# Altium footprint library maxim.PCBLIB: 63 footprints (part 1 of 4)
Each footprint in its own frame and in the unit in brackets; x right, y up, seen from the top. Pads: shape width x height; smd on the part's side, far side on the other; paste and mask are expansions set on the pad; w line width, h text height; cw(c..) or ccw(c..) is an arc to the next point about the centre after c.
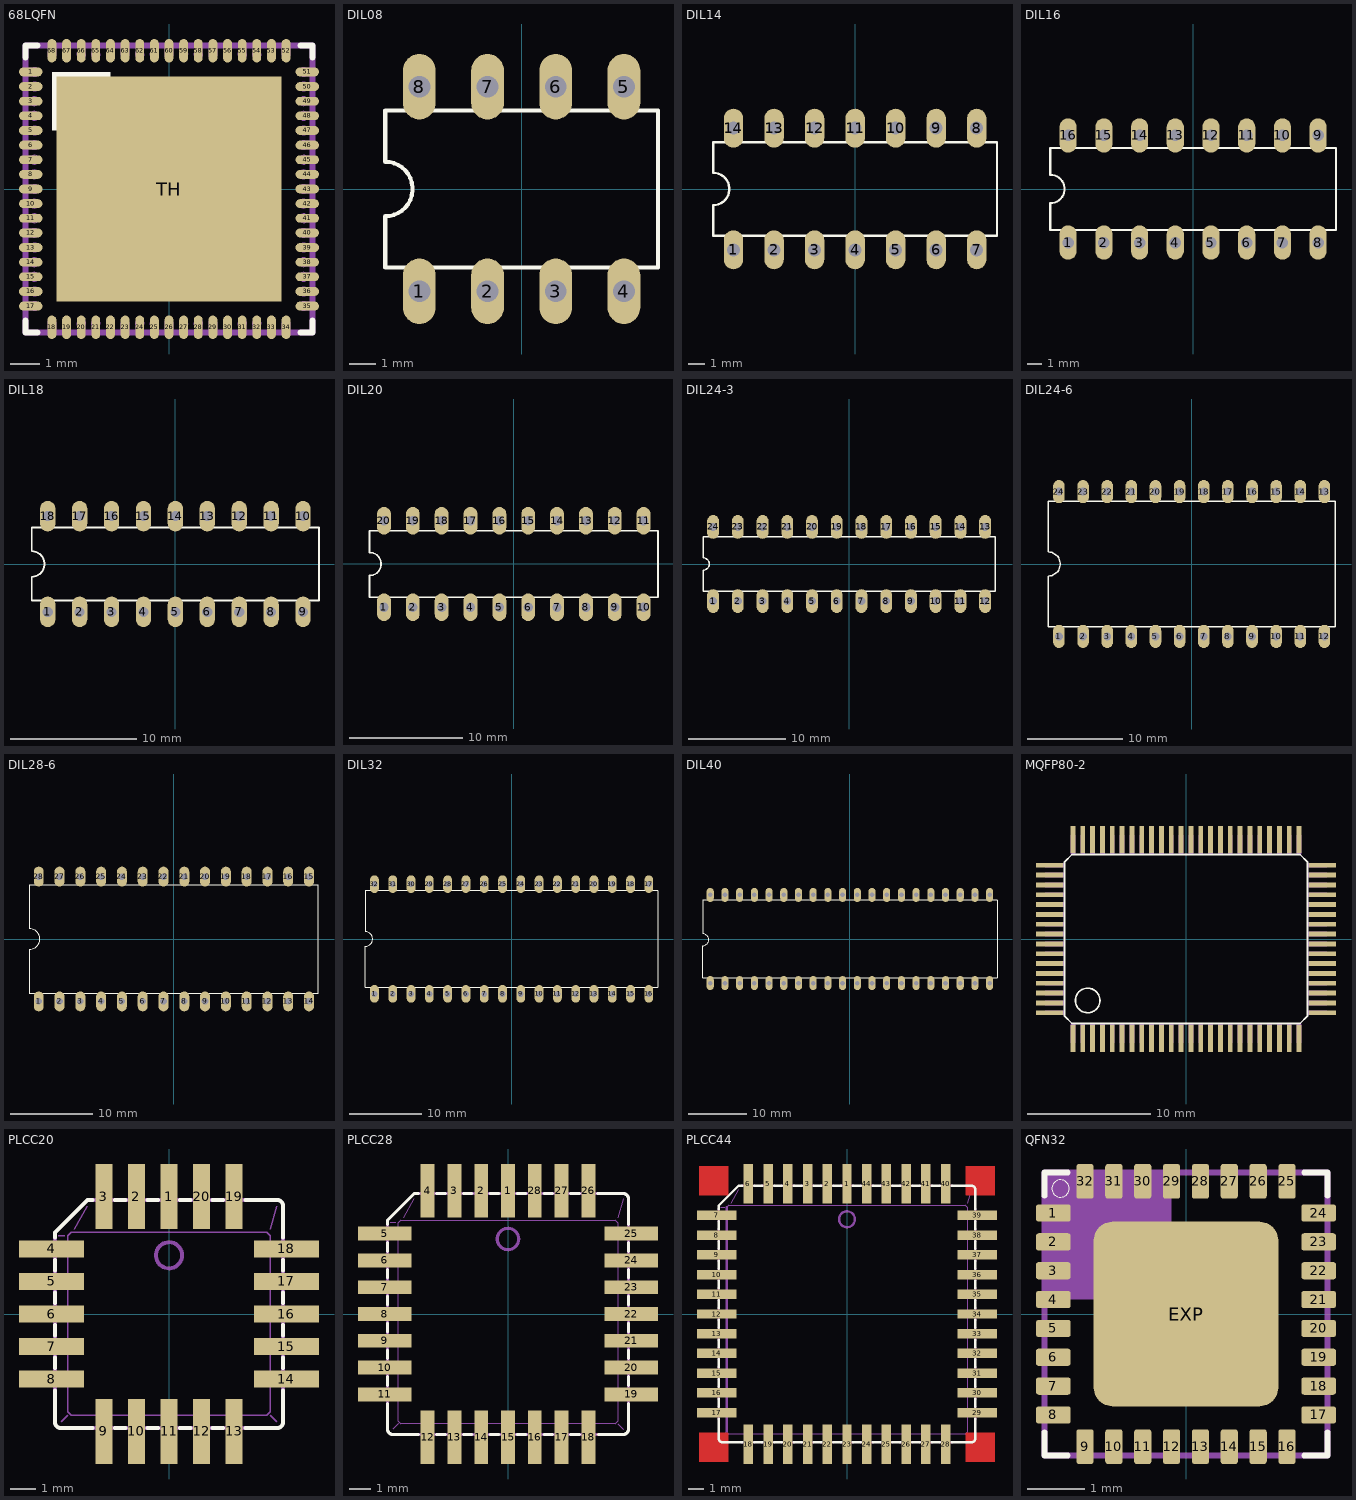
[diagram p0: the footprints below, top view; thin cyan lines are the x and y axes]

## 68LQFN [mil]
pads (69):
  rrect100% 31.5x11.81 smd: 1(-186.02,157.48) 2(-186.02,137.8) 3(-186.02,118.11) 4(-186.02,98.43) 5(-186.02,78.74) 6(-186.02,59.06) 7(-186.02,39.37) 8(-186.02,19.69) 9(-186.02,0) 10(-186.02,-19.69) 11(-186.02,-39.37) 12(-186.02,-59.06) 13(-186.02,-78.74) 14(-186.02,-98.43) 15(-186.02,-118.11) 16(-186.02,-137.8) 17(-186.02,-157.48) 35(186.02,-157.48) 36(186.02,-137.8) 37(186.02,-118.11) 38(186.02,-98.43) 39(186.02,-78.74) 40(186.02,-59.06) 41(186.02,-39.37) 42(186.02,-19.69) 43(186.02,0) 44(186.02,19.69) 45(186.02,39.37) 46(186.02,59.06) 47(186.02,78.74) 48(186.02,98.43) 49(186.02,118.11) 50(186.02,137.8) 51(186.02,157.48)
  rrect100% 11.81x31.5 smd: 18(-157.48,-186.02) 19(-137.8,-186.02) 20(-118.11,-186.02) 21(-98.43,-186.02) 22(-78.74,-186.02) 23(-59.06,-186.02) 24(-39.37,-186.02) 25(-19.69,-186.02) 26(0,-186.02) 27(19.69,-186.02) 28(39.37,-186.02) 29(59.06,-186.02) 30(78.74,-186.02) 31(98.43,-186.02) 32(118.11,-186.02) 33(137.8,-186.02) 34(157.48,-186.02) 52(157.48,186.02) 53(137.8,186.02) 54(118.11,186.02) 55(98.43,186.02) 56(78.74,186.02) 57(59.06,186.02) 58(39.37,186.02) 59(19.69,186.02) 60(0,186.02) 61(-19.69,186.02) 62(-39.37,186.02) 63(-59.06,186.02) 64(-78.74,186.02) 65(-98.43,186.02) 66(-118.11,186.02) 67(-137.8,186.02) 68(-157.48,186.02)
  rect 303.15x303.15 smd: TH(0,0)
Top Overlay:
  rectangle: -157.48,78.74 -78.74,157.48
  lines w8: -192.91,-177.17 -192.91,-192.91 -177.17,-192.91 ; -192.91,177.17 -192.91,192.91 -177.17,192.91 ; 177.17,-192.91 192.91,-192.91 192.91,-177.17 ; 177.17,192.91 192.91,192.91 192.91,177.17
Mechanical 16:
  circle w0: c-181.1,157.48 r5.91
  circle w0: c-181.1,137.8 r5.91
  circle w0: c-181.1,118.11 r5.91
  circle w0: c-181.1,98.43 r5.91
  circle w0: c-181.1,78.74 r5.91
  circle w0: c-181.1,59.06 r5.91
  circle w0: c-181.1,39.37 r5.91
  circle w0: c-181.1,19.69 r5.91
  circle w0: c-181.1,0 r5.91
  circle w0: c-181.1,-19.69 r5.91
  circle w0: c-181.1,-39.37 r5.91
  circle w0: c-181.1,-59.06 r5.91
  circle w0: c-181.1,-78.74 r5.91
  circle w0: c-181.1,-98.43 r5.91
  circle w0: c-181.1,-118.11 r5.91
  circle w0: c-181.1,-137.8 r5.91
  circle w0: c-181.1,-157.48 r5.91
  circle w0: c-157.48,-181.1 r5.91
  circle w0: c-137.8,-181.1 r5.91
  circle w0: c-118.11,-181.1 r5.91
  circle w0: c-98.43,-181.1 r5.91
  circle w0: c-78.74,-181.1 r5.91
  circle w0: c-59.06,-181.1 r5.91
  circle w0: c-39.37,-181.1 r5.91
  circle w0: c-19.69,-181.1 r5.91
  circle w0: c0,-181.1 r5.91
  circle w0: c19.69,-181.1 r5.91
  circle w0: c39.37,-181.1 r5.91
  circle w0: c59.06,-181.1 r5.91
  circle w0: c78.74,-181.1 r5.91
  circle w0: c98.43,-181.1 r5.91
  circle w0: c118.11,-181.1 r5.91
  circle w0: c137.8,-181.1 r5.91
  circle w0: c157.48,-181.1 r5.91
  circle w0: c181.1,-157.48 r5.91
  circle w0: c181.1,-137.8 r5.91
  circle w0: c181.1,-118.11 r5.91
  circle w0: c181.1,-98.43 r5.91
  circle w0: c181.1,-78.74 r5.91
  circle w0: c181.1,-59.06 r5.91
  circle w0: c181.1,-39.37 r5.91
  circle w0: c181.1,-19.69 r5.91
  circle w0: c181.1,0 r5.91
  circle w0: c181.1,19.69 r5.91
  circle w0: c181.1,39.37 r5.91
  circle w0: c181.1,59.06 r5.91
  circle w0: c181.1,78.74 r5.91
  circle w0: c181.1,98.43 r5.91
  circle w0: c181.1,118.11 r5.91
  circle w0: c181.1,137.8 r5.91
  circle w0: c181.1,157.48 r5.91
  circle w0: c157.48,181.1 r5.91
  circle w0: c137.8,181.1 r5.91
  circle w0: c118.11,181.1 r5.91
  circle w0: c98.43,181.1 r5.91
  circle w0: c78.74,181.1 r5.91
  circle w0: c59.06,181.1 r5.91
  circle w0: c39.37,181.1 r5.91
  circle w0: c19.69,181.1 r5.91
  circle w0: c0,181.1 r5.91
  circle w0: c-19.69,181.1 r5.91
  circle w0: c-39.37,181.1 r5.91
  circle w0: c-59.06,181.1 r5.91
  circle w0: c-78.74,181.1 r5.91
  circle w0: c-98.43,181.1 r5.91
  circle w0: c-118.11,181.1 r5.91
  circle w0: c-137.8,181.1 r5.91
  circle w0: c-157.48,181.1 r5.91
  rectangle: -196.85,151.57 -181.1,163.39
  rectangle: -196.85,131.89 -181.1,143.7
  rectangle: -196.85,112.2 -181.1,124.02
  rectangle: -196.85,92.52 -181.1,104.33
  rectangle: -196.85,72.83 -181.1,84.65
  rectangle: -196.85,53.15 -181.1,64.96
  rectangle: -196.85,33.46 -181.1,45.28
  rectangle: -196.85,13.78 -181.1,25.59
  rectangle: -196.85,-5.91 -181.1,5.91
  rectangle: -196.85,-25.59 -181.1,-13.78
  rectangle: -196.85,-45.28 -181.1,-33.46
  rectangle: -196.85,-64.96 -181.1,-53.15
  rectangle: -196.85,-84.65 -181.1,-72.83
  rectangle: -196.85,-104.33 -181.1,-92.52
  rectangle: -196.85,-124.02 -181.1,-112.2
  rectangle: -196.85,-143.7 -181.1,-131.89
  rectangle: -196.85,-163.39 -181.1,-151.57
  region: -151.58,-196.84 -151.58,-181.11 -163.39,-181.11 -163.39,-196.84
  region: -131.89,-196.85 -131.89,-181.1 -143.7,-181.1 -143.7,-196.85
  region: -112.2,-196.84 -112.2,-181.1 -124.02,-181.1 -124.02,-196.84
  region: -92.52,-196.85 -92.52,-181.1 -104.33,-181.1 -104.33,-196.85
  region: -72.84,-196.84 -72.84,-181.1 -84.65,-181.1 -84.65,-196.84
  region: -53.15,-196.85 -53.15,-181.1 -64.96,-181.1 -64.96,-196.85
  region: -33.47,-196.84 -33.47,-181.1 -45.28,-181.1 -45.28,-196.84
  region: -13.78,-196.85 -13.78,-181.1 -25.59,-181.1 -25.59,-196.85
  region: 5.91,-196.84 5.91,-181.1 -5.91,-181.1 -5.91,-196.84
  region: 25.59,-196.85 25.59,-181.1 13.78,-181.1 13.78,-196.85
  region: 45.28,-196.84 45.28,-181.1 33.47,-181.1 33.47,-196.84
  region: 64.96,-196.85 64.96,-181.1 53.15,-181.1 53.15,-196.85
  region: 84.65,-196.84 84.65,-181.1 72.84,-181.1 72.84,-196.84
  region: 104.33,-196.85 104.33,-181.1 92.52,-181.1 92.52,-196.85
  region: 124.02,-196.84 124.02,-181.1 112.2,-181.1 112.2,-196.84
  region: 143.7,-196.85 143.7,-181.1 131.89,-181.1 131.89,-196.85
  region: 163.39,-196.84 163.39,-181.11 151.58,-181.11 151.58,-196.84
  region: 196.85,-151.57 181.1,-151.57 181.1,-163.39 196.85,-163.39
  region: 196.85,-131.89 181.1,-131.89 181.1,-143.7 196.85,-143.7
  region: 196.85,-112.2 181.1,-112.2 181.1,-124.02 196.85,-124.02
  region: 196.85,-92.52 181.1,-92.52 181.1,-104.33 196.85,-104.33
  region: 196.85,-72.83 181.1,-72.83 181.1,-84.65 196.85,-84.65
  region: 196.85,-53.15 181.1,-53.15 181.1,-64.96 196.85,-64.96
  region: 196.85,-33.46 181.1,-33.46 181.1,-45.28 196.85,-45.28
  region: 196.85,-13.78 181.1,-13.78 181.1,-25.59 196.85,-25.59
  region: 196.85,5.91 181.1,5.91 181.1,-5.91 196.85,-5.91
  region: 196.85,25.59 181.1,25.59 181.1,13.78 196.85,13.78
  region: 196.85,45.28 181.1,45.28 181.1,33.46 196.85,33.46
  region: 196.85,64.96 181.1,64.96 181.1,53.15 196.85,53.15
  region: 196.85,84.65 181.1,84.65 181.1,72.83 196.85,72.83
  region: 196.85,104.33 181.1,104.33 181.1,92.52 196.85,92.52
  region: 196.85,124.02 181.1,124.02 181.1,112.2 196.85,112.2
  region: 196.85,143.7 181.1,143.7 181.1,131.89 196.85,131.89
  region: 196.85,163.39 181.1,163.39 181.1,151.57 196.85,151.57
  region: 151.58,196.84 151.58,181.11 163.39,181.11 163.39,196.84
  region: 131.89,196.85 131.89,181.1 143.7,181.1 143.7,196.85
  region: 112.2,196.84 112.2,181.1 124.02,181.1 124.02,196.84
  region: 92.52,196.85 92.52,181.1 104.33,181.1 104.33,196.85
  region: 72.84,196.84 72.84,181.1 84.65,181.1 84.65,196.84
  region: 53.15,196.85 53.15,181.1 64.96,181.1 64.96,196.85
  region: 33.47,196.84 33.47,181.1 45.28,181.1 45.28,196.84
  region: 13.78,196.85 13.78,181.1 25.59,181.1 25.59,196.85
  region: -5.9,196.84 -5.91,181.1 5.9,181.1 5.91,196.84
  region: -25.59,196.85 -25.59,181.1 -13.78,181.1 -13.78,196.85
  region: -45.28,196.84 -45.28,181.1 -33.47,181.1 -33.47,196.84
  region: -64.96,196.85 -64.96,181.1 -53.15,181.1 -53.15,196.85
  region: -84.65,196.84 -84.65,181.1 -72.84,181.1 -72.84,196.84
  region: -104.33,196.85 -104.33,181.1 -92.52,181.1 -92.52,196.85
  region: -124.02,196.84 -124.02,181.1 -112.2,181.1 -112.2,196.84
  region: -143.7,196.85 -143.7,181.1 -131.89,181.1 -131.89,196.85
  region: -163.39,196.84 -163.39,181.11 -151.58,181.11 -151.58,196.84
  lines w8: -192.91,-192.91 192.91,-192.91 192.91,192.91 -192.91,192.91 -192.91,-192.91

## DIL08 [mil]
pads (8):
  oval 48x96 hole 32: 1(-150,-150) 2(-50,-150) 3(50,-150) 4(150,-150) 5(150,150) 6(50,150) 7(-50,150) 8(-150,150)
Top Overlay:
  lines w6: -200,-115 200,-115 200,115 -200,115 -200,40 cw(c-200,0) -200,-40 -200,-115

## DIL14 [mil]
pads (14):
  oval 48x96 hole 32: 1(-300,-150) 2(-200,-150) 3(-100,-150) 4(0,-150) 5(100,-150) 6(200,-150) 7(300,-150) 8(300,150) 9(200,150) 10(100,150) 11(0,150) 12(-100,150) 13(-200,150) 14(-300,150)
Top Overlay:
  lines w6: -350,-115 350,-115 350,115 -350,115 -350,40 cw(c-350,0) -350,-40 -350,-115

## DIL16 [mil]
pads (16):
  oval 48x96 hole 32: 1(-350,-150) 2(-250,-150) 3(-150,-150) 4(-50,-150) 5(50,-150) 6(150,-150) 7(250,-150) 8(350,-150) 9(350,150) 10(250,150) 11(150,150) 12(50,150) 13(-50,150) 14(-150,150) 15(-250,150) 16(-350,150)
Top Overlay:
  lines w6: -400,-115 400,-115 400,115 -400,115 -400,40 cw(c-400,0) -400,-40 -400,-115

## DIL18 [mil]
pads (18):
  oval 48x96 hole 32: 1(-400,-150) 2(-300,-150) 3(-200,-150) 4(-100,-150) 5(0,-150) 6(100,-150) 7(200,-150) 8(300,-150) 9(400,-150) 10(400,150) 11(300,150) 12(200,150) 13(100,150) 14(0,150) 15(-100,150) 16(-200,150) 17(-300,150) 18(-400,150)
Top Overlay:
  lines w6: -450,-115 450,-115 450,115 -450,115 -450,40 cw(c-450,0) -450,-40 -450,-115

## DIL20 [mil]
pads (20):
  oval 48x96 hole 32: 1(-450,-150) 2(-350,-150) 3(-250,-150) 4(-150,-150) 5(-50,-150) 6(50,-150) 7(150,-150) 8(250,-150) 9(350,-150) 10(450,-150) 11(450,150) 12(350,150) 13(250,150) 14(150,150) 15(50,150) 16(-50,150) 17(-150,150) 18(-250,150) 19(-350,150) 20(-450,150)
Top Overlay:
  lines w6: -500,-115 500,-115 500,115 -500,115 -500,40 cw(c-500,0) -500,-40 -500,-115

## DIL24-3 [mil]
pads (24):
  oval 48x96 hole 32: 1(-550,-150) 2(-450,-150) 3(-350,-150) 4(-250,-150) 5(-150,-150) 6(-50,-150) 7(50,-150) 8(150,-150) 9(250,-150) 10(350,-150) 11(450,-150) 12(550,-150) 13(550,150) 14(450,150) 15(350,150) 16(250,150) 17(150,150) 18(50,150) 19(-50,150) 20(-150,150) 21(-250,150) 22(-350,150) 23(-450,150) 24(-550,150)
Top Overlay:
  lines w6: -590,-110 -590,-25 ccw(c-590,0) -590,25 -590,110 590,110 590,-110 -590,-110

## DIL24-6 [mil]
pads (24):
  oval 48x96 hole 32: 1(-550,-300) 2(-450,-300) 3(-350,-300) 4(-250,-300) 5(-150,-300) 6(-50,-300) 7(50,-300) 8(150,-300) 9(250,-300) 10(350,-300) 11(450,-300) 12(550,-300) 13(550,300) 14(450,300) 15(350,300) 16(250,300) 17(150,300) 18(50,300) 19(-50,300) 20(-150,300) 21(-250,300) 22(-350,300) 23(-450,300) 24(-550,300)
Top Overlay:
  lines w6: -595,-260 -595,-50 ccw(c-595,0) -595,50 -595,260 595,260 595,-260 -595,-260

## DIL28-6 [mil]
pads (28):
  oval 48x96 hole 32: 1(-650,-300) 2(-550,-300) 3(-450,-300) 4(-350,-300) 5(-250,-300) 6(-150,-300) 7(-50,-300) 8(50,-300) 9(150,-300) 10(250,-300) 11(350,-300) 12(450,-300) 13(550,-300) 14(650,-300) 15(650,300) 16(550,300) 17(450,300) 18(350,300) 19(250,300) 20(150,300) 21(50,300) 22(-50,300) 23(-150,300) 24(-250,300) 25(-350,300) 26(-450,300) 27(-550,300) 28(-650,300)
Top Overlay:
  lines w6: -695,-260 -695,-50 ccw(c-695,0) -695,50 -695,260 695,260 695,-260 -695,-260

## DIL32 [mil]
pads (32):
  oval 48x96 hole 32: 1(-750,-300) 2(-650,-300) 3(-550,-300) 4(-450,-300) 5(-350,-300) 6(-250,-300) 7(-150,-300) 8(-50,-300) 9(50,-300) 10(150,-300) 11(250,-300) 12(350,-300) 13(450,-300) 14(550,-300) 15(650,-300) 16(750,-300) 17(750,300) 18(650,300) 19(550,300) 20(450,300) 21(350,300) 22(250,300) 23(150,300) 24(50,300) 25(-50,300) 26(-150,300) 27(-250,300) 28(-350,300) 29(-450,300) 30(-550,300) 31(-650,300) 32(-750,300)
Top Overlay:
  lines w6: -800,-265 800,-265 800,265 -800,265 -800,40 cw(c-800,0) -800,-40 -800,-265

## DIL40 [mil]
pads (40):
  oval 48x96 hole 32: 1(-950,-300) 2(-850,-300) 3(-750,-300) 4(-650,-300) 5(-550,-300) 6(-450,-300) 7(-350,-300) 8(-250,-300) 9(-150,-300) 10(-50,-300) 11(50,-300) 12(150,-300) 13(250,-300) 14(350,-300) 15(450,-300) 16(550,-300) 17(650,-300) 18(750,-300) 19(850,-300) 20(950,-300) 21(950,300) 22(850,300) 23(750,300) 24(650,300) 25(550,300) 26(450,300) 27(350,300) 28(250,300) 29(150,300) 30(50,300) 31(-50,300) 32(-150,300) 33(-250,300) 34(-350,300) 35(-450,300) 36(-550,300) 37(-650,300) 38(-750,300) 39(-850,300) 40(-950,300)
Top Overlay:
  lines w6: -1000,-265 1000,-265 1000,265 -1000,265 -1000,35 cw(c-1000,-5) -1000,-45 -1000,-265

## MQFP80-2 [mm]
pads (80):
  rect 0.4x2.2 smd: 1(-9.2,-8.1) 2(-8.4,-8.1) 3(-7.6,-8.1) 4(-6.8,-8.1) 5(-6,-8.1) 6(-5.2,-8.1) 7(-4.4,-8.1) 8(-3.6,-8.1) 9(-2.8,-8.1) 10(-2,-8.1) 11(-1.2,-8.1) 12(-0.4,-8.1) 13(0.4,-8.1) 14(1.2,-8.1) 15(2,-8.1) 16(2.8,-8.1) 17(3.6,-8.1) 18(4.4,-8.1) 19(5.2,-8.1) 20(6,-8.1) 21(6.8,-8.1) 22(7.6,-8.1) 23(8.4,-8.1) 24(9.2,-8.1) 41(9.2,8.1) 42(8.4,8.1) 43(7.6,8.1) 44(6.8,8.1) 45(6,8.1) 46(5.2,8.1) 47(4.4,8.1) 48(3.6,8.1) 49(2.8,8.1) 50(2,8.1) 51(1.2,8.1) 52(0.4,8.1) 53(-0.4,8.1) 54(-1.2,8.1) 55(-2,8.1) 56(-2.8,8.1) 57(-3.6,8.1) 58(-4.4,8.1) 59(-5.2,8.1) 60(-6,8.1) 61(-6.8,8.1) 62(-7.6,8.1) 63(-8.4,8.1) 64(-9.2,8.1)
  rect 2.2x0.4 smd: 25(11.1,-6) 26(11.1,-5.2) 27(11.1,-4.4) 28(11.1,-3.6) 29(11.1,-2.8) 30(11.1,-2) 31(11.1,-1.2) 32(11.1,-0.4) 33(11.1,0.4) 34(11.1,1.2) 35(11.1,2) 36(11.1,2.8) 37(11.1,3.6) 38(11.1,4.4) 39(11.1,5.2) 40(11.1,6) 65(-11.1,6) 66(-11.1,5.2) 67(-11.1,4.4) 68(-11.1,3.6) 69(-11.1,2.8) 70(-11.1,2) 71(-11.1,1.2) 72(-11.1,0.4) 73(-11.1,-0.4) 74(-11.1,-1.2) 75(-11.1,-2) 76(-11.1,-2.8) 77(-11.1,-3.6) 78(-11.1,-4.4) 79(-11.1,-5.2) 80(-11.1,-6)
Top Overlay:
  circle w0.152: c-8,-5 r1
  lines w0.152: -9.873,-6.273 -9.873,6.273 -9.273,6.873 9.273,6.873 9.873,6.273 9.873,-6.273 9.273,-6.873 -9.273,-6.873 -9.873,-6.273
Mechanical 16:
  rectangle: -9.4,6.873 -9,8.473
  rectangle: -8.6,6.873 -8.2,8.473
  rectangle: -7.8,6.873 -7.4,8.473
  rectangle: -7,6.873 -6.6,8.473
  rectangle: -6.2,6.873 -5.8,8.473
  rectangle: -5.4,6.873 -5,8.473
  rectangle: -4.6,6.873 -4.2,8.473
  rectangle: -3.8,6.873 -3.4,8.473
  rectangle: -3,6.873 -2.6,8.473
  rectangle: -2.2,6.873 -1.8,8.473
  rectangle: -1.4,6.873 -1,8.473
  rectangle: -0.6,6.873 -0.2,8.473
  rectangle: 0.2,6.873 0.6,8.473
  rectangle: 1,6.873 1.4,8.473
  rectangle: 1.8,6.873 2.2,8.473
  rectangle: 2.6,6.873 3,8.473
  rectangle: 3.4,6.873 3.8,8.473
  rectangle: 4.2,6.873 4.6,8.473
  rectangle: 5,6.873 5.4,8.473
  rectangle: 5.8,6.873 6.2,8.473
  rectangle: 6.6,6.873 7,8.473
  rectangle: 7.4,6.873 7.8,8.473
  rectangle: 8.2,6.873 8.6,8.473
  rectangle: 9,6.873 9.4,8.473
  rectangle: -9.4,-8.473 -9,-6.873
  rectangle: -8.6,-8.473 -8.2,-6.873
  rectangle: -7.8,-8.473 -7.4,-6.873
  rectangle: -7,-8.473 -6.6,-6.873
  rectangle: -6.2,-8.473 -5.8,-6.873
  rectangle: -5.4,-8.473 -5,-6.873
  rectangle: -4.6,-8.473 -4.2,-6.873
  rectangle: -3.8,-8.473 -3.4,-6.873
  rectangle: -3,-8.473 -2.6,-6.873
  rectangle: -2.2,-8.473 -1.8,-6.873
  rectangle: -1.4,-8.473 -1,-6.873
  rectangle: -0.6,-8.473 -0.2,-6.873
  rectangle: 0.2,-8.473 0.6,-6.873
  rectangle: 1,-8.473 1.4,-6.873
  rectangle: 1.8,-8.473 2.2,-6.873
  rectangle: 2.6,-8.473 3,-6.873
  rectangle: 3.4,-8.473 3.8,-6.873
  rectangle: 4.2,-8.473 4.6,-6.873
  rectangle: 5,-8.473 5.4,-6.873
  rectangle: 5.8,-8.473 6.2,-6.873
  rectangle: 6.6,-8.473 7,-6.873
  rectangle: 7.4,-8.473 7.8,-6.873
  rectangle: 8.2,-8.473 8.6,-6.873
  rectangle: 9,-8.473 9.4,-6.873
  rectangle: -11.473,5.8 -9.873,6.2
  rectangle: -11.473,5 -9.873,5.4
  rectangle: -11.473,4.2 -9.873,4.6
  rectangle: -11.473,3.4 -9.873,3.8
  rectangle: -11.473,2.6 -9.873,3
  rectangle: -11.473,1.8 -9.873,2.2
  rectangle: -11.473,1 -9.873,1.4
  rectangle: -11.473,0.2 -9.873,0.6
  rectangle: -11.473,-0.6 -9.873,-0.2
  rectangle: -11.473,-1.4 -9.873,-1
  rectangle: -11.473,-2.2 -9.873,-1.8
  rectangle: -11.473,-3 -9.848,-2.6
  rectangle: -11.473,-3.8 -9.898,-3.4
  rectangle: -11.473,-4.6 -9.873,-4.2
  rectangle: -11.473,-5.4 -9.873,-5
  rectangle: 9.873,5.8 11.473,6.2
  rectangle: 9.873,5 11.473,5.4
  rectangle: 9.873,4.2 11.473,4.6
  rectangle: 9.873,3.4 11.473,3.8
  rectangle: 9.873,2.6 11.473,3
  rectangle: 9.873,1.8 11.473,2.2
  rectangle: 9.873,1 11.473,1.4
  rectangle: 9.848,0.2 11.473,0.6
  rectangle: 9.873,-0.6 11.473,-0.2
  rectangle: 9.873,-1.4 11.473,-1
  rectangle: 9.873,-2.2 11.473,-1.8
  rectangle: 9.873,-3 11.473,-2.6
  rectangle: 9.873,-3.8 11.473,-3.4
  rectangle: 9.873,-4.6 11.473,-4.2
  rectangle: 9.873,-5.4 11.473,-5
  rectangle: 9.873,-6.2 11.473,-5.8
  rectangle: -11.473,-6.2 -9.873,-5.8

## PLCC20 [mil]
pads (20):
  rect 26x100 smd: 1(0,180) 2(-50,180) 3(-100,180) 9(-100,-180) 10(-50,-180) 11(0,-180) 12(50,-180) 13(100,-180) 19(100,180) 20(50,180)
  rect 100x26 smd: 4(-180,100) 5(-180,50) 6(-180,0) 7(-180,-50) 8(-180,-100) 14(180,-100) 15(180,-50) 16(180,0) 17(180,50) 18(180,100)
Top Overlay:
  lines w6: -175,-165 ccw(c-165,-165) -165,-175 ; -175,-164 -175,-117 ; -175,-83 -175,-67 ; -175,-33 -175,-17 ; -175,17 -175,33 ; -175,67 -175,83 ; -175,117 -175,125 -125,175 -117,175 ; -164,-175 -117,-175 ; -83,-175 -67,-175 ; -83,175 -67,175 ; -33,-175 -17,-175 ; -33,175 -17,175 ; 17,-175 33,-175 ; 17,175 33,175 ; 67,-175 83,-175 ; 67,175 83,175 ; 117,-175 164,-175 ; 117,175 164,175 ; 165,-175 ccw(c165,-165) 175,-165 ; 165,175 cw(c165,165) 175,165 175,117 ; 175,-164 175,-117 ; 175,-83 175,-67 ; 175,-33 175,-17 ; 175,17 175,33 ; 175,67 175,83
Mechanical 16:
  circle w6: c0,90 r20
  rectangle: -110,175 -90,200
  rectangle: -10,175 10,200
  rectangle: -60,175 -40,200
  rectangle: -200,-10 -175,10
  rectangle: -200,90 -175,110
  rectangle: -200,40 -175,60
  rectangle: -200,-110 -175,-90
  rectangle: -200,-60 -175,-40
  rectangle: -10,-200 10,-175
  rectangle: -110,-200 -90,-175
  rectangle: -60,-200 -40,-175
  rectangle: 90,-200 110,-175
  rectangle: 40,-200 60,-175
  rectangle: 175,-10 200,10
  rectangle: 175,-110 200,-90
  rectangle: 175,-60 200,-40
  rectangle: 175,90 200,110
  rectangle: 175,40 200,60
  rectangle: 90,175 110,200
  rectangle: 40,175 60,200
  lines w2: -170,120 -160,120 ; -165,-165 -155,-155 ; -145,130 -125,165 ; 155,-155 165,-165 ; 155,130 165,165 ; -155,-150 -150,-155 150,-155 155,-150 155,120 150,125 -150,125 -155,120 -155,-150
  lines w6: -175,-115 -175,-85 ; -175,-65 -175,-35 ; -175,-15 -175,15 ; -175,35 -175,65 ; -175,85 -175,115 ; -115,-175 -85,-175 ; -115,175 -85,175 ; -65,-175 -35,-175 ; -65,175 -35,175 ; -15,-175 15,-175 ; -15,175 15,175 ; 35,-175 65,-175 ; 35,175 65,175 ; 85,-175 115,-175 ; 85,175 115,175 ; 175,-115 175,-85 ; 175,-65 175,-35 ; 175,-15 175,15 ; 175,35 175,65 ; 175,85 175,115

## PLCC28 [mil]
pads (28):
  rect 26x100 smd: 1(0,230) 2(-50,230) 3(-100,230) 4(-150,230) 12(-150,-230) 13(-100,-230) 14(-50,-230) 15(0,-230) 16(50,-230) 17(100,-230) 18(150,-230) 26(150,230) 27(100,230) 28(50,230)
  rect 100x26 smd: 5(-230,150) 6(-230,100) 7(-230,50) 8(-230,0) 9(-230,-50) 10(-230,-100) 11(-230,-150) 19(230,-150) 20(230,-100) 21(230,-50) 22(230,0) 23(230,50) 24(230,100) 25(230,150)
Top Overlay:
  lines w6: -225,-167 -225,-215 ccw(c-215,-215) -215,-225 -167,-225 ; -225,-133 -225,-117 ; -225,-83 -225,-67 ; -225,-33 -225,-17 ; -225,17 -225,33 ; -225,67 -225,83 ; -225,117 -225,133 ; -225,167 -225,175 -175,225 -167,225 ; -133,-225 -117,-225 ; -133,225 -117,225 ; -83,-225 -67,-225 ; -83,225 -67,225 ; -33,-225 -17,-225 ; -33,225 -17,225 ; 17,-225 33,-225 ; 17,225 33,225 ; 67,-225 83,-225 ; 67,225 83,225 ; 117,-225 133,-225 ; 117,225 133,225 ; 167,225 215,225 cw(c215,215) 225,215 225,167 ; 168,-225 215,-225 ccw(c215,-215) 225,-215 225,-167 ; 225,-133 225,-117 ; 225,-83 225,-67 ; 225,-33 225,-17 ; 225,17 225,33 ; 225,67 225,83 ; 225,117 225,133
Mechanical 16:
  circle w6: c0,140 r20
  rectangle: 225,90 250,110
  rectangle: 225,140 250,160
  rectangle: 225,-160 250,-140
  rectangle: 225,-110 250,-90
  rectangle: 225,-60 250,-40
  rectangle: 225,-10 250,10
  rectangle: 225,40 250,60
  rectangle: 90,-250 110,-225
  rectangle: 140,-250 160,-225
  rectangle: -160,-250 -140,-225
  rectangle: -110,-250 -90,-225
  rectangle: -60,-250 -40,-225
  rectangle: -10,-250 10,-225
  rectangle: 40,-250 60,-225
  rectangle: -250,-110 -225,-90
  rectangle: -250,-160 -225,-140
  rectangle: -250,140 -225,160
  rectangle: -250,90 -225,110
  rectangle: -250,40 -225,60
  rectangle: -250,-10 -225,10
  rectangle: -250,-60 -225,-40
  rectangle: -110,225 -90,250
  rectangle: -160,225 -140,250
  rectangle: 140,225 160,250
  rectangle: 90,225 110,250
  rectangle: 40,225 60,250
  rectangle: -10,225 10,250
  rectangle: -60,225 -40,250
  lines w2: -220,170 -210,170 ; -215,-215 -205,-205 ; -195,180 -175,215 ; 205,-205 215,-215 ; 205,180 215,215 ; -205,-200 -200,-205 200,-205 205,-200 205,170 200,175 -200,175 -205,170 -205,-200
  lines w6: -225,-165 -225,-135 ; -225,-115 -225,-85 ; -225,-65 -225,-35 ; -225,-15 -225,15 ; -225,35 -225,65 ; -225,85 -225,115 ; -225,135 -225,165 ; -165,-225 -135,-225 ; -165,225 -135,225 ; -115,-225 -85,-225 ; -115,225 -85,225 ; -65,-225 -35,-225 ; -65,225 -35,225 ; -15,-225 15,-225 ; -15,225 15,225 ; 35,-225 65,-225 ; 35,225 65,225 ; 85,-225 115,-225 ; 85,225 115,225 ; 135,-225 165,-225 ; 135,225 165,225 ; 225,-165 225,-135 ; 225,-115 225,-85 ; 225,-65 225,-35 ; 225,-15 225,15 ; 225,35 225,65 ; 225,85 225,115 ; 225,135 225,165

## PLCC44 [mil]
pads (44):
  rect 24x100 smd: 1(0,330) 2(-50,330) 3(-100,330) 4(-150,330) 5(-200,330) 6(-250,330) 18(-250,-330) 19(-200,-330) 20(-150,-330) 21(-100,-330) 22(-50,-330) 23(0,-330) 24(50,-330) 25(100,-330) 26(150,-330) 27(200,-330) 28(250,-330) 40(250,330) 41(200,330) 42(150,330) 43(100,330) 44(50,330)
  rect 100x24 smd: 7(-330,250) 8(-330,200) 9(-330,150) 10(-330,100) 11(-330,50) 12(-330,0) 13(-330,-50) 14(-330,-100) 15(-330,-150) 16(-330,-200) 17(-330,-250) 29(330,-250) 30(330,-200) 31(330,-150) 32(330,-100) 33(330,-50) 34(330,0) 35(330,50) 36(330,100) 37(330,150) 38(330,200) 39(330,250)
Top Layer:
  rectangle: 300,-375 375,-300
  rectangle: 300,300 375,375
  rectangle: -375,300 -300,375
  rectangle: -375,-375 -300,-300
Top Overlay:
  lines w6: -325,-265 -325,-315 ccw(c-315,-315) -315,-325 -265,-325 ; -325,-235 -325,-215 ; -325,-185 -325,-165 ; -325,-135 -325,-115 ; -325,-85 -325,-65 ; -325,-35 -325,-15 ; -325,15 -325,35 ; -325,65 -325,85 ; -325,115 -325,135 ; -325,165 -325,185 ; -325,215 -325,235 ; -325,265 -325,275 -275,325 -265,325 ; -235,-325 -215,-325 ; -235,325 -215,325 ; -185,-325 -165,-325 ; -185,325 -165,325 ; -135,-325 -115,-325 ; -135,325 -115,325 ; -85,-325 -65,-325 ; -85,325 -65,325 ; -35,-325 -15,-325 ; -35,325 -15,325 ; 15,-325 35,-325 ; 15,325 35,325 ; 65,-325 85,-325 ; 65,325 85,325 ; 115,-325 135,-325 ; 115,325 135,325 ; 165,-325 185,-325 ; 165,325 185,325 ; 215,-325 235,-325 ; 215,325 235,325 ; 265,-325 315,-325 ccw(c315,-315) 325,-315 325,-265 ; 265,325 315,325 cw(c315,315) 325,315 325,265 ; 325,-235 325,-215 ; 325,-185 325,-165 ; 325,-135 325,-115 ; 325,-85 325,-65 ; 325,-35 325,-15 ; 325,15 325,35 ; 325,65 325,85 ; 325,115 325,135 ; 325,165 325,185 ; 325,215 325,235
Top Solder:
  rectangle: 300,-375 375,-300
  rectangle: 300,300 375,375
  rectangle: -375,300 -300,375
  rectangle: -375,-375 -300,-300
Mechanical 16:
  circle w6: c0,240 r20
  rectangle: 325,90 350,110
  rectangle: 325,140 350,160
  rectangle: 325,-260 350,-240
  rectangle: 325,-210 350,-190
  rectangle: 325,-60 350,-40
  rectangle: 325,-10 350,10
  rectangle: 325,40 350,60
  rectangle: 325,-160 350,-140
  rectangle: 325,-110 350,-90
  rectangle: 325,190 350,210
  rectangle: 325,240 350,260
  rectangle: -110,325 -90,350
  rectangle: -160,325 -140,350
  rectangle: 240,325 260,350
  rectangle: 190,325 210,350
  rectangle: 40,325 60,350
  rectangle: -10,325 10,350
  rectangle: -60,325 -40,350
  rectangle: 140,325 160,350
  rectangle: 90,325 110,350
  rectangle: -210,325 -190,350
  rectangle: -260,325 -240,350
  rectangle: -350,-110 -325,-90
  rectangle: -350,-160 -325,-140
  rectangle: -350,240 -325,260
  rectangle: -350,190 -325,210
  rectangle: -350,40 -325,60
  rectangle: -350,-10 -325,10
  rectangle: -350,-60 -325,-40
  rectangle: -350,140 -325,160
  rectangle: -350,90 -325,110
  rectangle: -350,-210 -325,-190
  rectangle: -350,-260 -325,-240
  rectangle: 90,-350 110,-325
  rectangle: 140,-350 160,-325
  rectangle: -260,-350 -240,-325
  rectangle: -210,-350 -190,-325
  rectangle: -60,-350 -40,-325
  rectangle: -10,-350 10,-325
  rectangle: 40,-350 60,-325
  rectangle: -160,-350 -140,-325
  rectangle: -110,-350 -90,-325
  rectangle: 190,-350 210,-325
  rectangle: 240,-350 260,-325
  lines w2: -320,270 -310,270 ; -315,-315 -305,-305 ; -305,-300 -300,-305 300,-305 305,-300 305,270 300,275 -300,275 -305,270 ; -295,280 -275,315 ; 305,-305 315,-315 ; 305,280 315,315
  lines w6: -325,-265 -325,-235 ; -325,-215 -325,-185 ; -325,-165 -325,-135 ; -325,-115 -325,-85 ; -325,-65 -325,-35 ; -325,-15 -325,15 ; -325,35 -325,65 ; -325,85 -325,115 ; -325,135 -325,165 ; -325,185 -325,215 ; -325,235 -325,265 ; -305,-300 -305,270 ; -265,-325 -235,-325 ; -265,325 -235,325 ; -215,-325 -185,-325 ; -215,325 -185,325 ; -165,-325 -135,-325 ; -165,325 -135,325 ; -115,-325 -85,-325 ; -115,325 -85,325 ; -65,-325 -35,-325 ; -65,325 -35,325 ; -15,-325 15,-325 ; -15,325 15,325 ; 35,-325 65,-325 ; 35,325 65,325 ; 85,-325 115,-325 ; 85,325 115,325 ; 135,-325 165,-325 ; 135,325 165,325 ; 185,-325 215,-325 ; 185,325 215,325 ; 235,-325 265,-325 ; 235,325 265,325 ; 325,-265 325,-235 ; 325,-215 325,-185 ; 325,-165 325,-135 ; 325,-115 325,-85 ; 325,-65 325,-35 ; 325,-15 325,15 ; 325,35 325,65 ; 325,85 325,115 ; 325,135 325,165 ; 325,185 325,215 ; 325,235 325,265

## QFN32 [mil]
pads (33):
  rrect30% 23.62x11.81 smd: 1(-90.55,68.9) 2(-90.55,49.21) 3(-90.55,29.53) 4(-90.55,9.84) 5(-90.55,-9.84) 6(-90.55,-29.53) 7(-90.55,-49.21) 8(-90.55,-68.9) 17(90.55,-68.9) 18(90.55,-49.21) 19(90.55,-29.53) 20(90.55,-9.84) 21(90.55,9.84) 22(90.55,29.53) 23(90.55,49.21) 24(90.55,68.9)
  rrect30% 11.81x23.62 smd: 9(-68.9,-90.55) 10(-49.21,-90.55) 11(-29.53,-90.55) 12(-9.84,-90.55) 13(9.84,-90.55) 14(29.53,-90.55) 15(49.21,-90.55) 16(68.9,-90.55) 25(68.9,90.55) 26(49.21,90.55) 27(29.53,90.55) 28(9.84,90.55) 29(-9.84,90.55) 30(-29.53,90.55) 31(-49.21,90.55) 32(-68.9,90.55)
  rrect20% 125.98x125.98 smd: EXP(0,0)
Top Overlay:
  circle w0: c-85.63,85.63 r5.91
  lines w4: -96.46,-80.71 -96.46,-96.46 -80.71,-96.46 ; -96.46,80.71 -96.46,96.46 -80.71,96.46 ; 80.71,-96.46 96.46,-96.46 96.46,-80.71 ; 80.71,96.46 96.46,96.46 96.46,80.71
Top Paste:
  rectangle: -11.81,43.31 11.81,55.12
  rectangle: -11.81,23.62 11.81,35.43
  rectangle: -11.81,3.94 11.81,15.75
  rectangle: -11.81,-15.75 11.81,-3.94
  rectangle: -11.81,-35.43 11.81,-23.62
  rectangle: -11.81,-55.12 11.81,-43.31
  rectangle: -51.18,43.31 -27.56,55.12
  rectangle: -51.18,23.62 -27.56,35.43
  rectangle: -51.18,3.94 -27.56,15.75
  rectangle: -51.18,-15.75 -27.56,-3.94
  rectangle: -51.18,-35.43 -27.56,-23.62
  rectangle: -51.18,-55.12 -27.56,-43.31
  rectangle: 27.56,43.31 51.18,55.12
  rectangle: 27.56,23.62 51.18,35.43
  rectangle: 27.56,3.94 51.18,15.75
  rectangle: 27.56,-15.75 51.18,-3.94
  rectangle: 27.56,-35.43 51.18,-23.62
  rectangle: 27.56,-55.12 51.18,-43.31
  region: 0,0 10,0 10,10 0,10
  region: 0,0 10,0 10,10 0,10
  region: 0,0 10,0 10,10 0,10
  region: 0,0 10,0 10,10 0,10
  region: 0,0 10,0 10,10 0,10
  region: 0,0 10,0 10,10 0,10
  region: 0,0 10,0 10,10 0,10
  region: 0,0 10,0 10,10 0,10
  region: 0,0 10,0 10,10 0,10
  region: 0,0 10,0 10,10 0,10
  region: 0,0 10,0 10,10 0,10
  region: 0,0 10,0 10,10 0,10
  region: 0,0 10,0 10,10 0,10
  region: 0,0 10,0 10,10 0,10
  region: 0,0 10,0 10,10 0,10
  region: 0,0 10,0 10,10 0,10
  region: 0,0 10,0 10,10 0,10
  region: 0,0 10,0 10,10 0,10
  region: 0,0 10,0 10,10 0,10
  region: 0,0 10,0 10,10 0,10
  region: 0,0 10,0 10,10 0,10
  region: 0,0 10,0 10,10 0,10
  region: 0,0 10,0 10,10 0,10
  region: 0,0 10,0 10,10 0,10
  region: 0,0 10,0 10,10 0,10
  region: 0,0 10,0 10,10 0,10
  region: 0,0 10,0 10,10 0,10
  region: 0,0 10,0 10,10 0,10
  region: 0,0 10,0 10,10 0,10
  region: 0,0 10,0 10,10 0,10
  region: 0,0 10,0 10,10 0,10
  region: 0,0 10,0 10,10 0,10
Top Solder:
  region: 0,0 10,0 10,10 0,10
  region: 0,0 10,0 10,10 0,10
  region: 0,0 10,0 10,10 0,10
  region: 0,0 10,0 10,10 0,10
  region: 0,0 10,0 10,10 0,10
  region: 0,0 10,0 10,10 0,10
  region: 0,0 10,0 10,10 0,10
  region: 0,0 10,0 10,10 0,10
  region: 0,0 10,0 10,10 0,10
  region: 0,0 10,0 10,10 0,10
  region: 0,0 10,0 10,10 0,10
  region: 0,0 10,0 10,10 0,10
  region: 0,0 10,0 10,10 0,10
  region: 0,0 10,0 10,10 0,10
  region: 0,0 10,0 10,10 0,10
  region: 0,0 10,0 10,10 0,10
  region: 0,0 10,0 10,10 0,10
  region: 0,0 10,0 10,10 0,10
  region: 0,0 10,0 10,10 0,10
  region: 0,0 10,0 10,10 0,10
  region: 0,0 10,0 10,10 0,10
  region: 0,0 10,0 10,10 0,10
  region: 0,0 10,0 10,10 0,10
  region: 0,0 10,0 10,10 0,10
  region: 0,0 10,0 10,10 0,10
  region: 0,0 10,0 10,10 0,10
  region: 0,0 10,0 10,10 0,10
  region: 0,0 10,0 10,10 0,10
  region: 0,0 10,0 10,10 0,10
  region: 0,0 10,0 10,10 0,10
  region: 0,0 10,0 10,10 0,10
  region: 0,0 10,0 10,10 0,10
  region: 0,0 10,0 10,10 0,10
Mechanical 16:
  rectangle: -98.43,9.84 -9.84,98.43
  lines w4: -96.46,-96.46 96.46,-96.46 96.46,96.46 -96.46,96.46 -96.46,-96.46